# Altium schematic symbol library AltiumDesigner.SchLib: 1 symbol
Pins are listed as number, name and electrical type; pins without a type are passive.

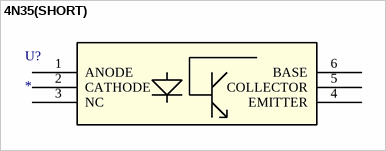
[diagram p0: symbol 4N35(SHORT)]

## 4N35(SHORT)
designator U?
Imported; Manufacturer_Part_Number: 4N35(SHORT); Vendor: Toshiba; Built_By: EMA_UL_Team; C: Copyright (C) 2015 Accelerated Designs. All rights reserved; Value: Value; Type: Type; RefDes: RefDes
footprint 11-7A8
pins: 1 ANODE, 2 CATHODE, 3 NC, 4 EMITTER, 5 COLLECTOR, 6 BASE